# EAGLE library part 502598-4593 (library Sala-Eng-Molex)
MOLEX 502598-4593 45 Pin 0.3mm FFC "Easy-On" Cable Connector Remote Side
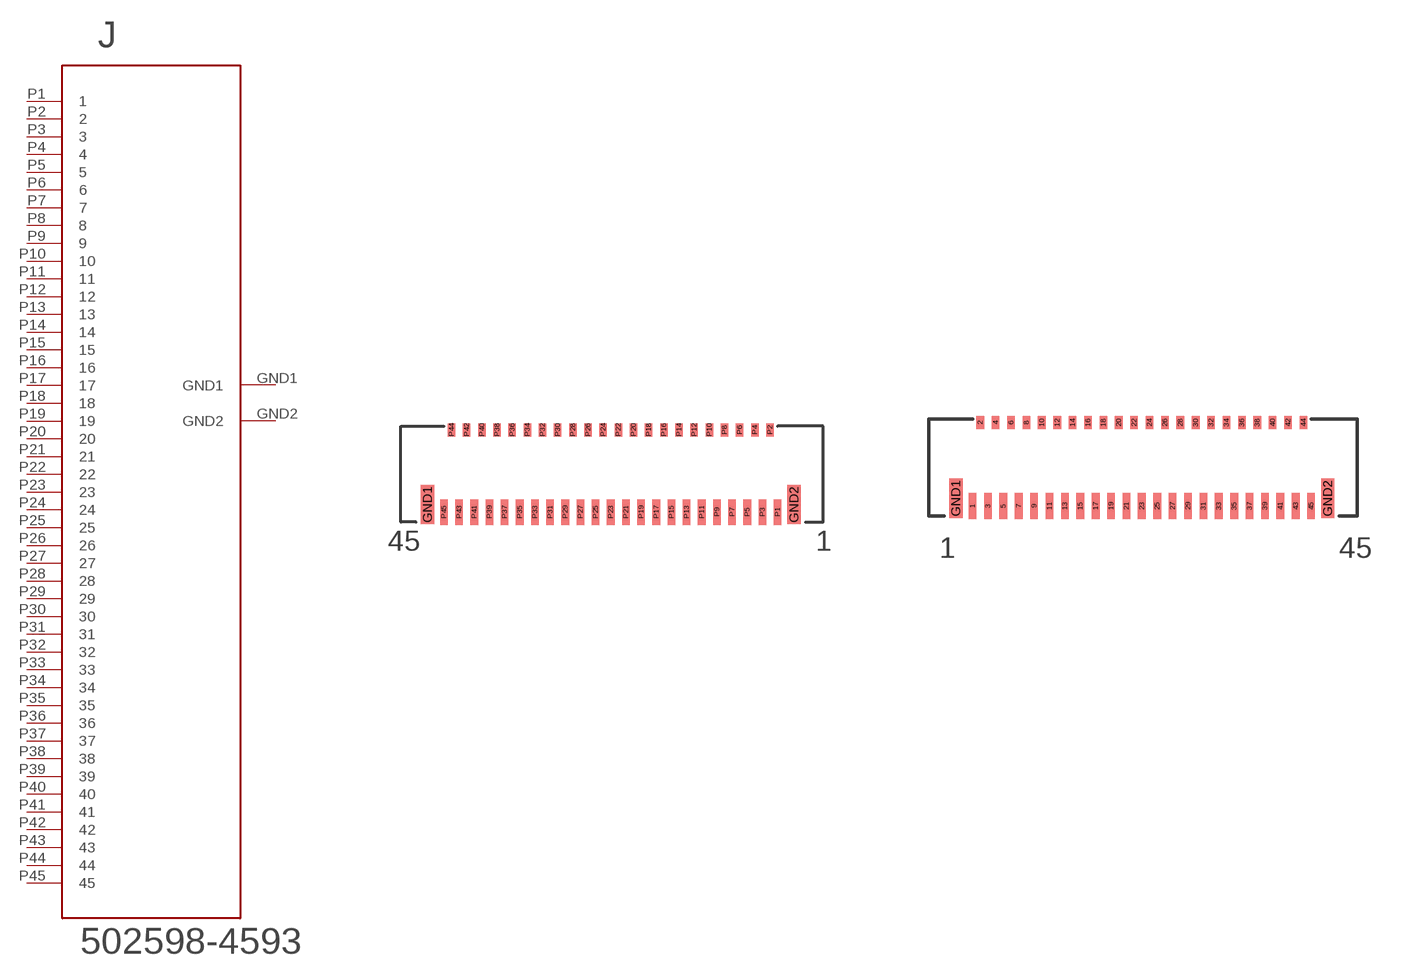
[diagram p2: symbol with the pads of 502598-4593-B; footprints 502598-4593-B, 502598-4593-A]

Designator prefix J

## 502598-4593REMOTE (MAN-PART_NUM: 502598-4593; MANUFACTURER: Molex)  [502598-4593-B]
GND1  GND1
GND2  GND2
P1  1
P2  2
P3  3
P4  4
P5  5
P6  6
P7  7
P8  8
P9  9
P10  10
P11  11
P12  12
P13  13
P14  14
P15  15
P16  16
P17  17
P18  18
P19  19
P20  20
P21  21
P22  22
P23  23
P24  24
P25  25
P26  26
P27  27
P28  28
P29  29
P30  30
P31  31
P32  32
P33  33
P34  34
P35  35
P36  36
P37  37
P38  38
P39  39
P40  40
P41  41
P42  42
P43  43
P44  44
P45  45

## 502598-4593BASE (MAN-PART_NUM: 502598-4593; MANUFACTURER: Molex)  [502598-4593-A]
1  1
2  2
3  3
4  4
5  5
6  6
7  7
8  8
9  9
10  10
11  11
12  12
13  13
14  14
15  15
16  16
17  17
18  18
19  19
20  20
21  21
22  22
23  23
24  24
25  25
26  26
27  27
28  28
29  29
30  30
31  31
32  32
33  33
34  34
35  35
36  36
37  37
38  38
39  39
40  40
41  41
42  42
43  43
44  44
45  45
GND1  GND1
GND2  GND2

## Footprint 502598-4593-B (pad centres in mm)
MOLEX 502598-4593 45 Pin 0.3mm FFC "Easy-On" Cable Connector Remote Side
smd 0.52 x 1.55: GND1 -7.55,-1.325; GND2 6.95,-1.325
smd 0.3 x 1: P1 6.3,-1.625; P3 5.7,-1.625; P5 5.1,-1.625; P7 4.5,-1.625; P9 3.9,-1.625; P11 3.3,-1.625; P13 2.7,-1.625; P15 2.1,-1.625; P17 1.5,-1.625; P19 0.9,-1.625; P21 0.3,-1.625; P23 -0.3,-1.625; P25 -0.9,-1.625; P27 -1.5,-1.625; P29 -2.1,-1.625; P31 -2.7,-1.625; P33 -3.3,-1.625; P35 -3.9,-1.625; P37 -4.5,-1.625; P39 -5.1,-1.625; P41 -5.7,-1.625; P43 -6.3,-1.625; P45 -6.9,-1.625
smd 0.3 x 0.5: P2 6,1.625; P4 5.4,1.625; P6 4.8,1.625; P8 4.2,1.625; P10 3.6,1.625; P12 3,1.625; P14 2.4,1.625; P16 1.8,1.625; P18 1.2,1.625; P20 0.6,1.625; P22 0,1.625; P24 -0.6,1.625; P26 -1.2,1.625; P28 -1.8,1.625; P30 -2.4,1.625; P32 -3,1.625; P34 -3.6,1.625; P36 -4.2,1.625; P38 -4.8,1.625; P40 -5.4,1.625; P42 -6,1.625; P44 -6.6,1.625

## Footprint 502598-4593-A (pad centres in mm)
MOLEX 502598-4593 45 Pin 0.3mm FFC "Easy-On" Cable Connector Base Side
smd 0.3 x 1: 1 -6.9,-1.625; 3 -6.3,-1.625; 5 -5.7,-1.625; 7 -5.1,-1.625; 9 -4.5,-1.625; 11 -3.9,-1.625; 13 -3.3,-1.625; 15 -2.7,-1.625; 17 -2.1,-1.625; 19 -1.5,-1.625; 21 -0.9,-1.625; 23 -0.3,-1.625; 25 0.3,-1.625; 27 0.9,-1.625; 29 1.5,-1.625; 31 2.1,-1.625; 33 2.7,-1.625; 35 3.3,-1.625; 37 3.9,-1.625; 39 4.5,-1.625; 41 5.1,-1.625; 43 5.7,-1.625; 45 6.3,-1.625
smd 0.3 x 0.5: 2 -6.6,1.625; 4 -6,1.625; 6 -5.4,1.625; 8 -4.8,1.625; 10 -4.2,1.625; 12 -3.6,1.625; 14 -3,1.625; 16 -2.4,1.625; 18 -1.8,1.625; 20 -1.2,1.625; 22 -0.6,1.625; 24 0,1.625; 26 0.6,1.625; 28 1.2,1.625; 30 1.8,1.625; 32 2.4,1.625; 34 3,1.625; 36 3.6,1.625; 38 4.2,1.625; 40 4.8,1.625; 42 5.4,1.625; 44 6,1.625
smd 0.52 x 1.55: GND1 -7.55,-1.325; GND2 6.95,-1.325